# Altium schematic symbol library shematic_lib_lumiere.SchLib: 1 symbol
Pins are listed as number, name and electrical type; pins without a type are passive.

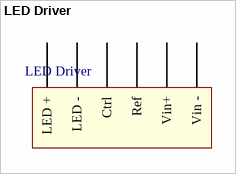
[diagram p0: symbol LED Driver]

## LED Driver
designator LED Driver  (value not drawn)
footprint LED_driver (LED driver)
pins: 1 LED +, 2 LED -, 3 Ctrl, 4 Ref, 5 Vin+, 6 Vin -